# Altium integrated library MMSZ5252BS-7-F.IntLib: 1 symbol
Pins are listed as number, name and electrical type; pins without a type are passive.

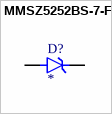
[diagram p0: symbol MMSZ5252BS-7-F]

## MMSZ5252BS-7-F
designator D?
Diode Zener Single 24V 5% 200mW SOD323 | Diodes Inc MMSZ5252BS-7-F; MF: Diodes Inc.; SnapEDA_Link: https://www.snapeda.com/parts/MMSZ5252BS-7-F/Diodes+Inc./view-part/?ref=snap; Package: SOD-323 Diodes Inc.; Value: *; MP: MMSZ5252BS-7-F; Check_prices: https://www.snapeda.com/parts/MMSZ5252BS-7-F/Diodes+Inc./view-part/?ref=eda
footprint SOD2513X110N
pins: A, K